# Altium integrated library TPS7A7002DDAR.IntLib: 1 symbol
Pins are listed as number, name and electrical type; pins without a type are passive.

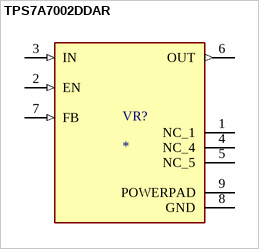
[diagram p0: symbol TPS7A7002DDAR]

## TPS7A7002DDAR
designator VR?
3-A, low-VIN (1.4-V), adjustable ultra-low-dropout voltage regulator with enable 8-SO PowerPAD -40 to 125; MP: TPS7A7002DDAR; MF: Texas Instruments; Value: *; Check_prices: https://www.snapeda.com/parts/TPS7A7002DDAR/Texas%20Instruments/view-part/1133879/?ref=eda; Package: HSOIC-8 Texas Instruments; SnapEDA_Link: https://www.snapeda.com/parts/TPS7A7002DDAR/Texas%20Instruments/view-part/1133879/?ref=snap; Purchase-URL: https://pricing.snapeda.com/search/part/TPS7A7002DDAR/?ref=eda; Digi-Key_Part_Number: 296-40977-1-ND
footprint VREG_TPS7A7002DDAR
pins: 1 NC_1, 2 EN (in), 3 IN (in), 4 NC_4, 5 NC_5, 6 OUT (out), 7 FB (in), 8 GND (power), 9 POWERPAD (power)